# EAGLE library part ORESAT-SOLARPANEL-CARD-12PIN (library oresat-connectors)
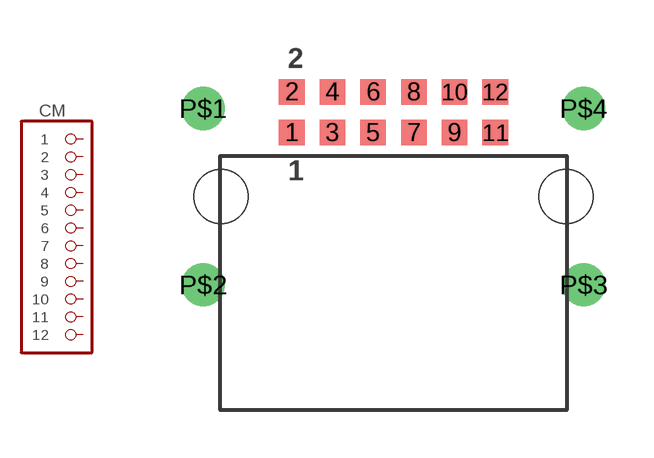
[diagram p2: symbol with the pads of CON-1.27-M-RA-HARTING-1515012X401XXX; footprint CON-1.27-M-RA-HARTING-1515012X401XXX]

Designator prefix CM

## ORESAT-SOLARPANEL-CARD-12PIN  [CON-1.27-M-RA-HARTING-1515012X401XXX]
1  1  pas
2  2  pas
3  3  pas
4  4  pas
5  5  pas
6  6  pas
7  7  pas
8  8  pas
9  9  pas
10  10  pas
11  11  pas
12  12  pas

## Footprint CON-1.27-M-RA-HARTING-1515012X401XXX (pad centres in mm)
smd 0.8 x 0.8: 1 -3.175,2; 2 -3.175,3.27; 3 -1.905,2; 4 -1.905,3.27; 5 -0.635,2; 6 -0.635,3.27; 7 0.635,2; 8 0.635,3.27; 9 1.905,2; 10 1.905,3.27; 11 3.175,2; 12 3.175,3.27
drill 0.6 pad 1.35: P$1 -5.935,2.75; P$2 -5.935,-2.75; P$3 5.935,-2.75; P$4 5.935,2.75
hole 1.68 at 5.385,0
hole 1.68 at -5.385,0